# Altium footprint library CUI_TBP03R1-350-07BE.PcbLib: 1 footprints
Each footprint in its own frame and in the unit in brackets; x right, y up, seen from the top. Pads: shape width x height; smd on the part's side, far side on the other; paste and mask are expansions set on the pad; w line width, h text height; cw(c..) or ccw(c..) is an arc to the next point about the centre after c.
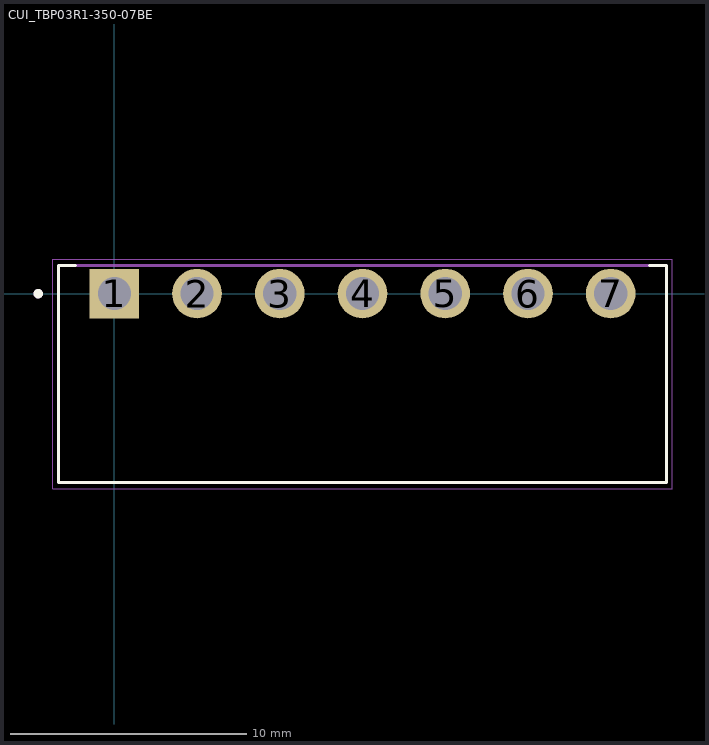
[diagram p0: the footprint, top view; thin cyan lines are the x and y axes]

## CUI_TBP03R1-350-07BE [mm]
height 7.2
pads (7):
  rect 2.1x2.1 / inner round 2.1 / far side rect 2.1x2.1 hole 1.4: 1(0,0)
  round 2.1 hole 1.4: 2(3.5,0) 3(7,0) 4(10.5,0) 5(14,0) 6(17.5,0) 7(21,0)
Top Overlay:
  circle w0.2: c-3.22,0 r0.1
  lines w0.127: -1.65,1.2 -2.35,1.2 -2.35,-8 23.35,-8 23.35,1.2 22.65,1.2
Assembly Top:
  circle w0.2: c-3.22,0 r0.1
  lines w0.127: -2.35,-8 -2.35,1.2 23.35,1.2 23.35,-8 -2.35,-8
Courtyard Top:
  lines w0.05: -2.6,-8.25 -2.6,1.45 23.6,1.45 23.6,-8.25 -2.6,-8.25
3D body "step_temp.STEP": height 7.23, standoff -3.37, extent -2.309,-8.001 23.391,1.199